# Altium schematic symbol library mlcc_smd_passive.SchLib: 55 symbols
Pins are listed as number, name and electrical type; pins without a type are passive.

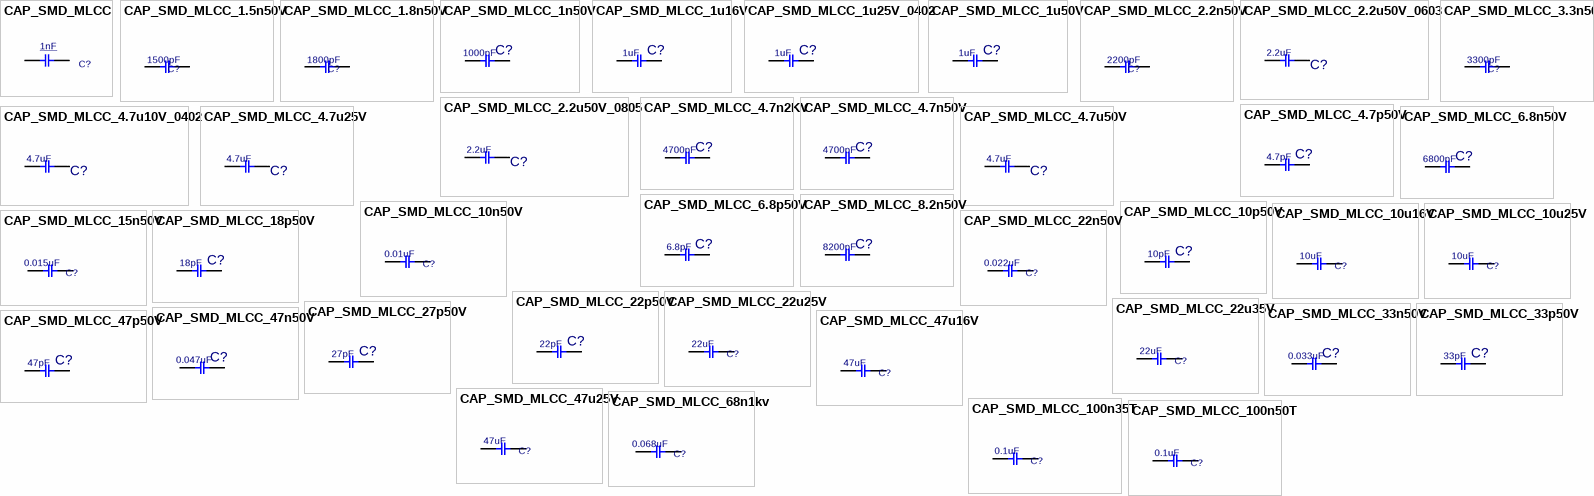
[diagram p0: symbols CAP_SMD_MLCC to CAP_SMD_MLCC_100n50T]

## CAP_SMD_MLCC
designator C?, comment 1nF
CAP, MLCC, 1nF, 50V, C0G, 10%, 0402; MANF: Murata; PARAM: C0G, 10%; PRICE: 100= 1.4$; DESC: -; MANF_P#: -; PARAM2: 50V; ASSEMBLY: ASSEMBLY; VALUE: 1nF
footprint C0402 (CHIP Capacitor, 1.0X0.5mm, 0402)
footprint C0603 (CHIP Capacitor, 1.6X0.8mm, 0603)
footprint C0805 (CHIP Capacitor, 2.0X1.3mm, 0805)
footprint C1206 (CHIP Capacitor, 3.2X1.6mm, 1206)
footprint C1210 (CHIP Capacitor, 3.2X2.5mm, 1210, 3225)
footprint C0508 (CHIP Capacitor, 1.3X2.0mm, 0508)
footprint C1020 (CHIP Capacitor, 2.50x5.00mm)
footprint C1808 (CHIP Capacitor, 4.6X2.0mm, 1808, 1806, 4620, 4520)
footprint C1812 (Chip Capacitor, 4.5x3.2mm, 1612, 1812, 4532)
footprint C1825 (Chip Capacitor, 4.5x6.4mm, 1825, 4564)
footprint C2225 (Chip Capacitor, 5.6x6.4mm, 2225, 5664)
footprint C2512 (Chip Capacitor, 6.4x3.2mm, 2512, 6432)
pins: 1, 2

## CAP_SMD_MLCC_1.5n50V
designator C?, comment 1500pF
CAP, MLCC; PARAM: X7R, 5%, -55~125oC; MANF_P#: GCM155R71H152KA37J; MANF: Murata; PARAM2: 50V; ASSEMBLY: ASSEMBLY; PRICE: 100= 2$; VALUE: 1500pF
footprint C0402 (CHIP Capacitor, 1.0X0.5mm, 0402)
pins: 1, 2

## CAP_SMD_MLCC_1.8n50V
designator C?, comment 1800pF
CAP, MLCC; PARAM: X7R, 5%, -55~125oC; MANF_P#: GCM155R72A182JA37J; MANF: Murata; PARAM2: 50V; ASSEMBLY: ASSEMBLY; PRICE: 100= 2.5$; VALUE: 1800pF
footprint C0402 (CHIP Capacitor, 1.0X0.5mm, 0402)
pins: 1, 2

## CAP_SMD_MLCC_1n50V
designator C?, comment 1000pF
CAP, MLCC, 50V, C0G, 5%; MANF_P#: GRM1555C1H102JA01D; MANF: MURATA; PARAM: C0G, 5%; DIST#: MOUSER; ASSEMBLY: ASSEMBLY; PRICE: 100= 1.5$; DESC: CAP, MLCC; PARAM2: 50V; VALUE: 1000pF
footprint C0402 (CHIP Capacitor, 1.0X0.5mm, 0402)
pins: 1, 2

## CAP_SMD_MLCC_1u16V
designator C?, comment 1uF
CAP, MLCC, 1uF, 16V, X5R, 10%, 0402; MANF_P#: GRM155R61C105KE01D; MANF: Murata; DIST#: MOUSER; ASSEMBLY: ASSEMBLY; PARAM: X5R, 10%; PRICE: 100= 2.5$; PARAM2: 16V; VALUE: 1uF
footprint C0402 (CHIP Capacitor, 1.0X0.5mm, 0402)
pins: 1, 2

## CAP_SMD_MLCC_1u25V_0402
designator C?, comment 1uF
CAP, MLCC; MANF_P#: CGB2A1JB1E105K033BC; MANF: TDK; PARAM: JB, 10%, -25~85oC; DIST#: MOUSER; PARAM2: 25V; ASSEMBLY: ASSEMBLY; PRICE: 100= 5$; VALUE: 1uF
footprint C0402 (CHIP Capacitor, 1.0X0.5mm, 0402)
pins: 1, 2

## CAP_SMD_MLCC_1u50V
designator C?, comment 1uF
CAP, MLCC; MANF_P#: UMK107AB7105KA-T; MANF: Taiyo Yuden; PARAM: X7R, 10%; DIST#: MOUSER; PARAM2: 50V; ASSEMBLY: ASSEMBLY; PRICE: 100= 8$; VALUE: 1uF
footprint C0603 (CHIP Capacitor, 1.6X0.8mm, 0603)
pins: 1, 2

## CAP_SMD_MLCC_2.2n50V
designator C?, comment 2200pF
CAP, MLCC; PARAM: X7R, 5%, -55~125oC; MANF_P#: GCM155R71H222JA37D; MANF: Murata; PARAM2: 50V; ASSEMBLY: ASSEMBLY; PRICE: 100= 2$; VALUE: 2200pF
footprint C0402 (CHIP Capacitor, 1.0X0.5mm, 0402)
pins: 1, 2

## CAP_SMD_MLCC_2.2u50V_0603
designator C?, comment 2.2uF
CAP, MLCC; MANF_P#: C1005X7R1H104K050BB; MANF: TDK; PARAM: X7R, 10%; DIST#: MOUSER; PARAM2: 50V; ASSEMBLY: ASSEMBLY; PRICE: 1000= 27$; DESC: CAP, MLCC; VALUE: 2.2uF
footprint C0603 (CHIP Capacitor, 1.6X0.8mm, 0603)
pins: 1, 2

## CAP_SMD_MLCC_2.2u50V_0805
designator C?, comment 2.2uF
CAP, MLCC; MANF_P#: UMK212ABJ225KG-T; MANF: Taiyo Yuden; PARAM: X5R, 10%; DIST#: MOUSER; PARAM2: 50V; ASSEMBLY: ASSEMBLY; PRICE: 100= 10$; DESC: CAP, MLCC; VALUE: 2.2uF
footprint C0805 (CHIP Capacitor, 2.0X1.3mm, 0805)
pins: 1, 2

## CAP_SMD_MLCC_3.3n50V
designator C?, comment 3300pF
CAP, MLCC, 3.3nF, 50V, X7R, 5%, 0402C; PARAM: X7R, 5%, , -55~125oC; MANF_P#: GRM155R71H332KA01D; MANF: Murata; PARAM2: 50V; ASSEMBLY: ASSEMBLY; PRICE: 100= 2$; VALUE: 3300pF
footprint C0402 (CHIP Capacitor, 1.0X0.5mm, 0402)
pins: 1, 2

## CAP_SMD_MLCC_4.7n2KV
designator C?, comment 4700pF
CAP, MLCC; MANF_P#: C1808C472KGRACTU; MANF: KEMET; PARAM: X7R, 10%, , -55~125oC; DIST#: MOUSER; PARAM2: 2KV; ASSEMBLY: ASSEMBLY; PRICE: 0.66$; DESC: CAP, MLCC; VALUE: 4700pF
footprint C1808 (CHIP Capacitor, 4.6X2.0mm, 1808, 1806, 4620, 4520)
pins: 1, 2

## CAP_SMD_MLCC_4.7n50V
designator C?, comment 4700pF
CAP, MLCC; MANF_P#: GRM155R71H472KA01D; MANF: MURATA; PARAM: X7R, 10%, , -55~125oC; DIST#: MOUSER; PARAM2: 50V; ASSEMBLY: ASSEMBLY; PRICE: 100= 0.4$; DESC: CAP, MLCC; VALUE: 4700pF
footprint C0402 (CHIP Capacitor, 1.0X0.5mm, 0402)
pins: 1, 2

## CAP_SMD_MLCC_4.7p50V
designator C?, comment 4.7pF
CAP, MLCC, 50V, C0G, 5%; MANF_P#: GCM1555C1H4R7CA16J; MANF: MURATA; PARAM: C0G, 5%; DIST#: MOUSER; ASSEMBLY: ASSEMBLY; PRICE: 100= 0.4$; DESC: CAP, MLCC; PARAM2: 50V; VALUE: 4.7pF
footprint C0402 (CHIP Capacitor, 1.0X0.5mm, 0402)
pins: 1, 2

## CAP_SMD_MLCC_4.7u10V_0402
designator C?, comment 4.7uF
CAP, MLCC, 4.7uF, 10V, X5R, 20%, 0402; MANF_P#: 0402ZD475MAT2A; PARAM: X5R, 20%, -55~85oC; MANF: AVX; DIST#: MOUSER; PARAM2: 25V; ASSEMBLY: ASSEMBLY; PRICE: 100= 8.4$; DESC: CAP, MLCC; VALUE: 4.7uF
footprint C0402 (CHIP Capacitor, 1.0X0.5mm, 0402)
pins: 1, 2

## CAP_SMD_MLCC_4.7u25V
designator C?, comment 4.7uF
CAP, MLCC, 4.7uF, 25V, X5R, 10%, 0603; MANF_P#: C1608X5R1E475K080AC; MANF: TDK; DIST#: MOUSER; PARAM: X5R, 10%; ASSEMBLY: ASSEMBLY; PRICE: 100= 14$; PARAM2: 25V; VALUE: 4.7uF
footprint C0603 (CHIP Capacitor, 1.6X0.8mm, 0603)
pins: 1, 2

## CAP_SMD_MLCC_4.7u50V
designator C?, comment 4.7uF
CAP, MLCC, SMD; MANF_P#: UMK316BJ475KL-T; MANF: Taiyo Yuden; PARAM: X5R, 20%; DIST#: MOUSER; PARAM2: 50V; ASSEMBLY: ASSEMBLY; PRICE: 0.4$; DESC: CAP, MLCC; VALUE: 4.7uF
footprint C1206 (CHIP Capacitor, 3.2X1.6mm, 1206)
pins: 1, 2

## CAP_SMD_MLCC_6.8n50V
designator C?, comment 6800pF
CAP, MLCC; MANF_P#: GCM155R71H682JA55D; MANF: MURATA; PARAM: X7R, 5%; DIST#: MOUSER; PARAM2: 50V; ASSEMBLY: ASSEMBLY; PRICE: 100= 3$; DESC: CAP, MLCC; VALUE: 6800pF
footprint C0402 (CHIP Capacitor, 1.0X0.5mm, 0402)
pins: 1, 2

## CAP_SMD_MLCC_6.8p50V
designator C?, comment 6.8pF
CAP, MLCC, 50V, C0G, 5%; MANF_P#: GCQ1555C1H6R8WB01D; MANF: MURATA; PARAM: C0G, 5%, -55~125oC; DIST#: MOUSER; ASSEMBLY: ASSEMBLY; PRICE: 100= 30$; DESC: CAP, MLCC; PARAM2: 50V; VALUE: 6.8pF
footprint C0402 (CHIP Capacitor, 1.0X0.5mm, 0402)
pins: 1, 2

## CAP_SMD_MLCC_8.2n50V
designator C?, comment 8200pF
CAP, MLCC; MANF_P#: GRM155R71H822JA88D; MANF: MURATA; PARAM: X7R, 5%; DIST#: MOUSER; PARAM2: 50V; ASSEMBLY: ASSEMBLY; PRICE: 100= 3$; DESC: CAP, MLCC; VALUE: 8200pF
footprint C0402 (CHIP Capacitor, 1.0X0.5mm, 0402)
pins: 1, 2

## CAP_SMD_MLCC_10n50V
designator C?, comment 0.01uF
CAP, MLCC, 10nF, 50V, X7R, 10%, 0402C; MANF_P#: GCM155R71H103KA55D; MANF: Murata; PARAM: X7R, 10%; PARAM2: 50V; DESC: CAP, MLCC, 10nF, 50V, X7R, 10%, 0402C; VALUE: 0.01uF
footprint C0402 (CHIP Capacitor, 1.0X0.5mm, 0402)
pins: 1, 2

## CAP_SMD_MLCC_10p50V
designator C?, comment 10pF
CAP, MLCC, 50V, C0G, 5%; MANF_P#: GRM1555C1H100JA01D; MANF: MURATA; PARAM: C0G, 5%; DIST#: MOUSER; ASSEMBLY: ASSEMBLY; PRICE: 100= 0.7$; DESC: CAP, MLCC; PARAM2: 50V; VALUE: 10pF
footprint C0402 (CHIP Capacitor, 1.0X0.5mm, 0402)
pins: 1, 2

## CAP_SMD_MLCC_10u16V
designator C?, comment 10uF
CAP, MLCC, X5R, 10uF, 10%, 16V, 0603; MANF_P#: GRT188R61C106KE13D; MANF: Murata; PARAM: X5R, 10%, -55~85°C; PARAM2: 16V; PRICE: 100= 20$; VALUE: 10uF
footprint C0603 (CHIP Capacitor, 1.6X0.8mm, 0603)
pins: 1, 2

## CAP_SMD_MLCC_10u25V
designator C?, comment 10uF
CAP, MLCC, X5R 10uF 10% 25V 0805; MANF_P#: TMK212BBJ106MG-T; MANF: Taiyo Yuden; PARAM: X5R, 10%; PARAM2: 25V; PRICE: 100=5$; VALUE: 10uF
footprint C0805 (CHIP Capacitor, 2.0X1.3mm, 0805)
pins: 1, 2

## CAP_SMD_MLCC_15n50V
designator C?, comment 0.015uF
CAP, MLCC; MANF_P#: GRM155R71H153KA12D; MANF: Murata; PARAM: X7R, 10%; PARAM2: 50V; PRICE: 100= 2.4$; VALUE: 0.015uF
footprint C0402 (CHIP Capacitor, 1.0X0.5mm, 0402)
pins: 1, 2

## CAP_SMD_MLCC_18p50V
designator C?, comment 18pF
CAP, MLCC, 50V, C0G, 5%; MANF_P#: GRM1555C1H180JA01D; MANF: MURATA; PARAM: C0G, 5%; DIST#: MOUSER; ASSEMBLY: ASSEMBLY; PRICE: 100= 0.7$; DESC: CAP, MLCC; PARAM2: 50V; VALUE: 18pF
footprint C0402 (CHIP Capacitor, 1.0X0.5mm, 0402)
pins: 1, 2

## CAP_SMD_MLCC_22n50V
designator C?, comment 0.022uF
CAP, MLCC, 22nF, 50V, X7R, 10%, 0402C; MANF_P#: GRM155R71H223KA12D; MANF: Murata; PARAM: X7R, 10%; PARAM2: 50V; DESC: CAP, MLCC, 22nF, 50V, X7R, 10%, 0402C; VALUE: 0.022uF
footprint C0402 (CHIP Capacitor, 1.0X0.5mm, 0402)
pins: 1, 2

## CAP_SMD_MLCC_22p50V
designator C?, comment 22pF
CAP, MLCC, 50V, C0G, 2%; MANF_P#: GRM1555C1H220GA01D; MANF: MURATA; PARAM: C0G, 2%; DIST#: MOUSER; ASSEMBLY: ASSEMBLY; PRICE: 100= 2.4$; DESC: CAP, MLCC; PARAM2: 50V; VALUE: 22pF
footprint C0402 (CHIP Capacitor, 1.0X0.5mm, 0402)
pins: 1, 2

## CAP_SMD_MLCC_22u25V
designator C?, comment 22uF
CAP, MLCC, X5R 22uF 25V 20% 1206; PARAM: X5R, 20%; MANF_P#: TMK316BBJ226ML-T; MANF: Taiyo Yuden; DESC: CAP, MLCC, 22uF, 25V, X5R,  20%, 1206; PARAM2: 25V; PRICE: 0.572$; VALUE: 22uF
footprint C1206 (CHIP Capacitor, 3.2X1.6mm, 1206)
pins: 1, 2

## CAP_SMD_MLCC_22u35V
designator C?, comment 22uF
CAP, MLCC, X5R 22uF 35V 20% 1206; PARAM: X5R, 20%; MANF_P#: C3216X5R1V226M160AC; MANF: TDK; DESC: CAP, MLCC, 22uF, 25V, X5R,  20%, 1206; PARAM2: 35V; PRICE: 1.2$; VALUE: 22uF
footprint C1206 (CHIP Capacitor, 3.2X1.6mm, 1206)
pins: 1, 2

## CAP_SMD_MLCC_27p50V
designator C?, comment 27pF
CAP, MLCC, 50V, C0G, 5%; MANF_P#: GRM1555C1H270JA1D; MANF: MURATA; PARAM: C0G, 5%; DIST#: MOUSER; ASSEMBLY: ASSEMBLY; PRICE: 100= 0.7$; DESC: CAP, MLCC; PARAM2: 50V; VALUE: 27pF
footprint C0402 (CHIP Capacitor, 1.0X0.5mm, 0402)
pins: 1, 2

## CAP_SMD_MLCC_33n50V
designator C?, comment 0.033uF
CAP, MLCC; MANF_P#: GRM155R71H333KE14D; MANF: MURATA; PARAM: X7R, 10%; DIST#: MOUSER; PARAM2: 50V; ASSEMBLY: ASSEMBLY; PRICE: 100= 1.5$; DESC: CAP, MLCC; VALUE: 0.033uF
footprint C0402 (CHIP Capacitor, 1.0X0.5mm, 0402)
pins: 1, 2

## CAP_SMD_MLCC_33p50V
designator C?, comment 33pF
CAP, MLCC, 50V, C0G, 5%; MANF_P#: GRM1555C1H330FA01D; MANF: MURATA; PARAM: C0G, 5%; DIST#: MOUSER; ASSEMBLY: ASSEMBLY; PRICE: 100= 0.7$; DESC: CAP, MLCC; PARAM2: 50V; VALUE: 33pF
footprint C0402 (CHIP Capacitor, 1.0X0.5mm, 0402)
pins: 1, 2

## CAP_SMD_MLCC_47n50V
designator C?, comment 0.047uF
CAP, MLCC; MANF_P#: GRM155R71H473KE14J; MANF: MURATA; PARAM: X7R, 5%; DIST#: MOUSER; PARAM2: 50V; ASSEMBLY: ASSEMBLY; PRICE: 100= 2$; DESC: CAP, MLCC; VALUE: 0.047uF
footprint C0402 (CHIP Capacitor, 1.0X0.5mm, 0402)
pins: 1, 2

## CAP_SMD_MLCC_47p50V
designator C?, comment 47pF
CAP, MLCC, 50V, C0G, 5%; MANF_P#: GRM1555C1H470JA01D; MANF: MURATA; PARAM: C0G, 5%; DIST#: MOUSER; ASSEMBLY: ASSEMBLY; PRICE: 100= 0.9$; DESC: CAP, MLCC; PARAM2: 50V; VALUE: 47pF
footprint C0402 (CHIP Capacitor, 1.0X0.5mm, 0402)
pins: 1, 2

## CAP_SMD_MLCC_47u16V
designator C?, comment 47uF
CAP, MLCC, X5R 47uF 16V 10% 1210; PARAM: X5R, 10%; MANF_P#: GRM32ER61C476KE15K; MANF: Murata; PARAM2: 16V; PRICE: 100= 47$; VALUE: 47uF
footprint C1210 (CHIP Capacitor, 3.2X2.5mm, 1210, 3225)
pins: 1, 2

## CAP_SMD_MLCC_47u25V
designator C?, comment 47uF
CAP, MLCC, X5R 47uF 25V 20% 1206; PARAM: X5R, 20%; MANF_P#: C3216X5R1E476M160AC; MANF: TDK; DESC: CAP, MLCC,  47uF, 25V, X5R, 20%, 1206; PARAM2: 25V; PRICE: 500= 265$; VALUE: 47uF
footprint C1206 (CHIP Capacitor, 3.2X1.6mm, 1206)
pins: 1, 2

## CAP_SMD_MLCC_68n1kv
designator C?, comment 0.068uF
CAP, MLCC; MANF_P#: C1210W683KDRACTU; MANF: KEMET; PARAM: X7R, 10%, -55~125oC; PARAM2: 1000V; PRICE: 1$; VALUE: 0.068uF
footprint C1210 (CHIP Capacitor, 3.2X2.5mm, 1210, 3225)
pins: 1, 2

## CAP_SMD_MLCC_100n35T
designator C?, comment 0.1uF
CAP, MLCC, 100nF, 35V, X5R, 10%, 0402C; PARAM: X5R, 10%, -55~85oC; MANF_P#: GMK105BJ104KV-F; MANF: Taiyo Yuden; PARAM2: 35V; ASSEMBLY: ASSEMBLY; PRICE: 100= 4$; VALUE: 0.1uF
footprint C0402 (CHIP Capacitor, 1.0X0.5mm, 0402)
pins: 1, 2

## CAP_SMD_MLCC_100n50T
designator C?, comment 0.1uF
CAP, MLCC, 100nF, 50V, X5R, 10%, 0402C; PARAM: X5R, 10%, -55~85oC; MANF_P#: UMK105BJ104KV-F; MANF: Taiyo Yuden; PARAM2: 50V; ASSEMBLY: ASSEMBLY; PRICE: 100= 3.8$; VALUE: 0.1uF
footprint C0402 (CHIP Capacitor, 1.0X0.5mm, 0402)
pins: 1, 2

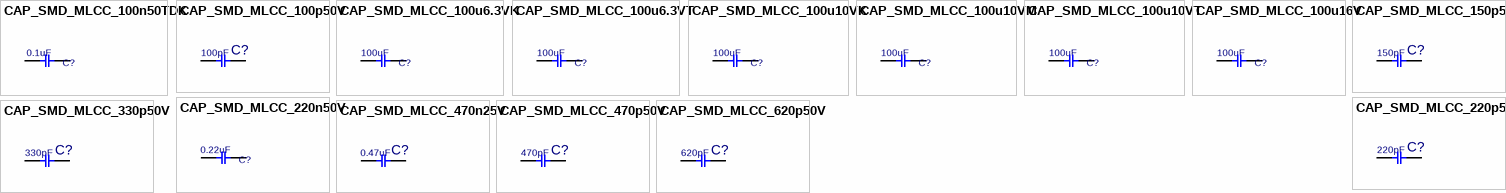
[diagram p1: symbols CAP_SMD_MLCC_100n50TDK to CAP_SMD_MLCC_620p50V]

## CAP_SMD_MLCC_100n50TDK
designator C?, comment 0.1uF
CAP, MLCC, 100nF, 50V, X7R, 10%, 0402C; PARAM: X7R, 10%, -55~125oC; MANF_P#: CGA2B3X7R1H104K050BE; MANF: TDK; PARAM2: 50V; ASSEMBLY: ASSEMBLY; PRICE: 100= 6$; VALUE: 0.1uF
footprint C0402 (CHIP Capacitor, 1.0X0.5mm, 0402)
pins: 1, 2

## CAP_SMD_MLCC_100p50V
designator C?, comment 100pF
CAP, MLCC, 50V, C0G, 5%; MANF_P#: GRM1555C1H101JA01D; MANF: MURATA; PARAM: C0G, 5%; DIST#: MOUSER; ASSEMBLY: ASSEMBLY; PRICE: 100= 0.4$; DESC: CAP, MLCC; PARAM2: 50V; VALUE: 100pF
footprint C0402 (CHIP Capacitor, 1.0X0.5mm, 0402)
pins: 1, 2

## CAP_SMD_MLCC_100u6.3VK
designator C?, comment 100uF
CAP, MLCC, X5R 100uF 20% 6.3V 1206; MANF_P#: C1206C107M9PACTU; MANF: KEMET; PARAM: X5R, 20%, -55~85oC; PARAM2: 6.3V; PRICE: 100= 60$; VALUE: 100uF
footprint C1210 (CHIP Capacitor, 3.2X2.5mm, 1210, 3225)
pins: 1, 2

## CAP_SMD_MLCC_100u6.3VT
designator C?, comment 100uF
CAP, MLCC, X5R 100uF 20% 6.3V 1210; MANF_P#: JMK325BJ107MM-T; MANF: Taiyo Yuden; PARAM: X5R, 20%, -55~85oC; PARAM2: 6.3V; PRICE: 100= 45$; VALUE: 100uF
footprint C1210 (CHIP Capacitor, 3.2X2.5mm, 1210, 3225)
pins: 1, 2

## CAP_SMD_MLCC_100u10VK
designator C?, comment 100uF
CAP, MLCC, X5R 100uF 20% 10V 1210; MANF_P#: C1210C107M8PACTU; MANF: KEMET; PARAM: X5R, 20%, -55~85oC; PARAM2: 10V; PRICE: 100= 78$; VALUE: 100uF
footprint C1210 (CHIP Capacitor, 3.2X2.5mm, 1210, 3225)
pins: 1, 2

## CAP_SMD_MLCC_100u10VM
designator C?, comment 100uF
CAP, MLCC, X5R 100uF 20% 10V 1210; MANF_P#: GRM32ER61A107ME20L; MANF: Murata; PARAM: X5R, 20%, -55~85oC; PARAM2: 10V; PRICE: 100= 58$; VALUE: 100uF
footprint C1210 (CHIP Capacitor, 3.2X2.5mm, 1210, 3225)
pins: 1, 2

## CAP_SMD_MLCC_100u10VT
designator C?, comment 100uF
CAP, MLCC, X5R 100uF 20% 10V 1210; MANF_P#: LMK325BJ107MM-T; MANF: Taiyo Yuden; PARAM: X5R, 20%, -55~85oC; PARAM2: 10V; PRICE: 100= 74$; VALUE: 100uF
footprint C1210 (CHIP Capacitor, 3.2X2.5mm, 1210, 3225)
pins: 1, 2

## CAP_SMD_MLCC_100u16V
designator C?, comment 100uF
CAP, MLCC, X5R 100uF 20% 16V 1210; MANF_P#: EMK325ABJ107MM-T; MANF: Taiyo Yuden; PARAM: X5R, 20%, -55~85oC; PARAM2: 16V; PRICE: 100= 124$; VALUE: 100uF
footprint C1210 (CHIP Capacitor, 3.2X2.5mm, 1210, 3225)
pins: 1, 2

## CAP_SMD_MLCC_150p50V
designator C?, comment 150pF
CAP, MLCC, 50V, C0G, 5%; MANF_P#: GRM1555C1H151JA01J; MANF: MURATA; PARAM: C0G, 5%; DIST#: MOUSER; ASSEMBLY: ASSEMBLY; PRICE: 100= 2$; DESC: CAP, MLCC; PARAM2: 50V; VALUE: 150pF
footprint C0402 (CHIP Capacitor, 1.0X0.5mm, 0402)
pins: 1, 2

## CAP_SMD_MLCC_220n50V
designator C?, comment 0.22uF
CAP, MLCC, 220nF, 50V, X6S, 10%, 0402C; MANF_P#: GRT155C81E224KE01D; MANF: Murata; PARAM: X6S, 10%; DESC: CAP, MLCC, 220nF, 50V, X6S, 10%, 0402C; PARAM2: 50V; ASSEMBLY: ASSEMBLY; PRICE: 100= 2$; VALUE: 0.22uF
footprint C0402 (CHIP Capacitor, 1.0X0.5mm, 0402)
pins: 1, 2

## CAP_SMD_MLCC_220p50V
designator C?, comment 220pF
CAP, MLCC, 50V, C0G, 5%; MANF_P#: GRM1555C1H221GA01D; MANF: MURATA; PARAM: C0G, 5%; DIST#: MOUSER; ASSEMBLY: ASSEMBLY; PRICE: 100= 0.4$; DESC: CAP, MLCC; PARAM2: 50V; VALUE: 220pF
footprint C0402 (CHIP Capacitor, 1.0X0.5mm, 0402)
pins: 1, 2

## CAP_SMD_MLCC_330p50V
designator C?, comment 330pF
CAP, MLCC, 50V, C0G, 5%; MANF_P#: GRM1555C1H331JA01D; MANF: MURATA; PARAM: C0G, 5%; DIST#: MOUSER; ASSEMBLY: ASSEMBLY; PRICE: 100= 1.5$; DESC: CAP, MLCC; PARAM2: 50V; VALUE: 330pF
footprint C0402 (CHIP Capacitor, 1.0X0.5mm, 0402)
pins: 1, 2

## CAP_SMD_MLCC_470n25V
designator C?, comment 0.47uF
CAP, MLCC, 16V,+/-10%,X7R; MANF_P#: C1005X5R1E474K050BB; MANF: TDK; PARAM: X5R, 10%; DIST#: MOUSER; PARAM2: 25V; ASSEMBLY: ASSEMBLY; PRICE: 100= 3$; DESC: CAP, MLCC; VALUE: 0.47uF
footprint C0402 (CHIP Capacitor, 1.0X0.5mm, 0402)
pins: 1, 2

## CAP_SMD_MLCC_470p50V
designator C?, comment 470pF
CAP, MLCC, 50V, C0G, 5%; MANF_P#: GCM1555C1H471JA16J; MANF: MURATA; PARAM: C0G, 5%; DIST#: MOUSER; ASSEMBLY: ASSEMBLY; PRICE: 100= 2$; DESC: CAP, MLCC; PARAM2: 50V; VALUE: 470pF
footprint C0402 (CHIP Capacitor, 1.0X0.5mm, 0402)
pins: 1, 2

## CAP_SMD_MLCC_620p50V
designator C?, comment 620pF
CAP, MLCC; MANF_P#: GRM1555C1H621GA01D; MANF: MURATA; PARAM: C0G, 2%, -55~125oC; DIST#: MOUSER; PARAM2: 50V; ASSEMBLY: ASSEMBLY; PRICE: 100= 7$; DESC: CAP, MLCC; VALUE: 620pF
footprint C0402 (CHIP Capacitor, 1.0X0.5mm, 0402)
pins: 1, 2